# Altium schematic symbol library EL-sense_Memory_Cards.SchLib: 1 symbol
Pins are listed as number, name and electrical type; pins without a type are passive.

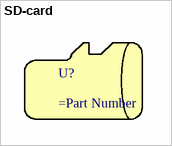
[diagram p0: symbol SD-card]

## SD-card
designator U?